# Altium footprint library SBComponentsFootprints.PcbLib: 38 footprints (part 1 of 3)
Each footprint in its own frame and in the unit in brackets; x right, y up, seen from the top. Pads: shape width x height; smd on the part's side, far side on the other; paste and mask are expansions set on the pad; w line width, h text height; cw(c..) or ccw(c..) is an arc to the next point about the centre after c.
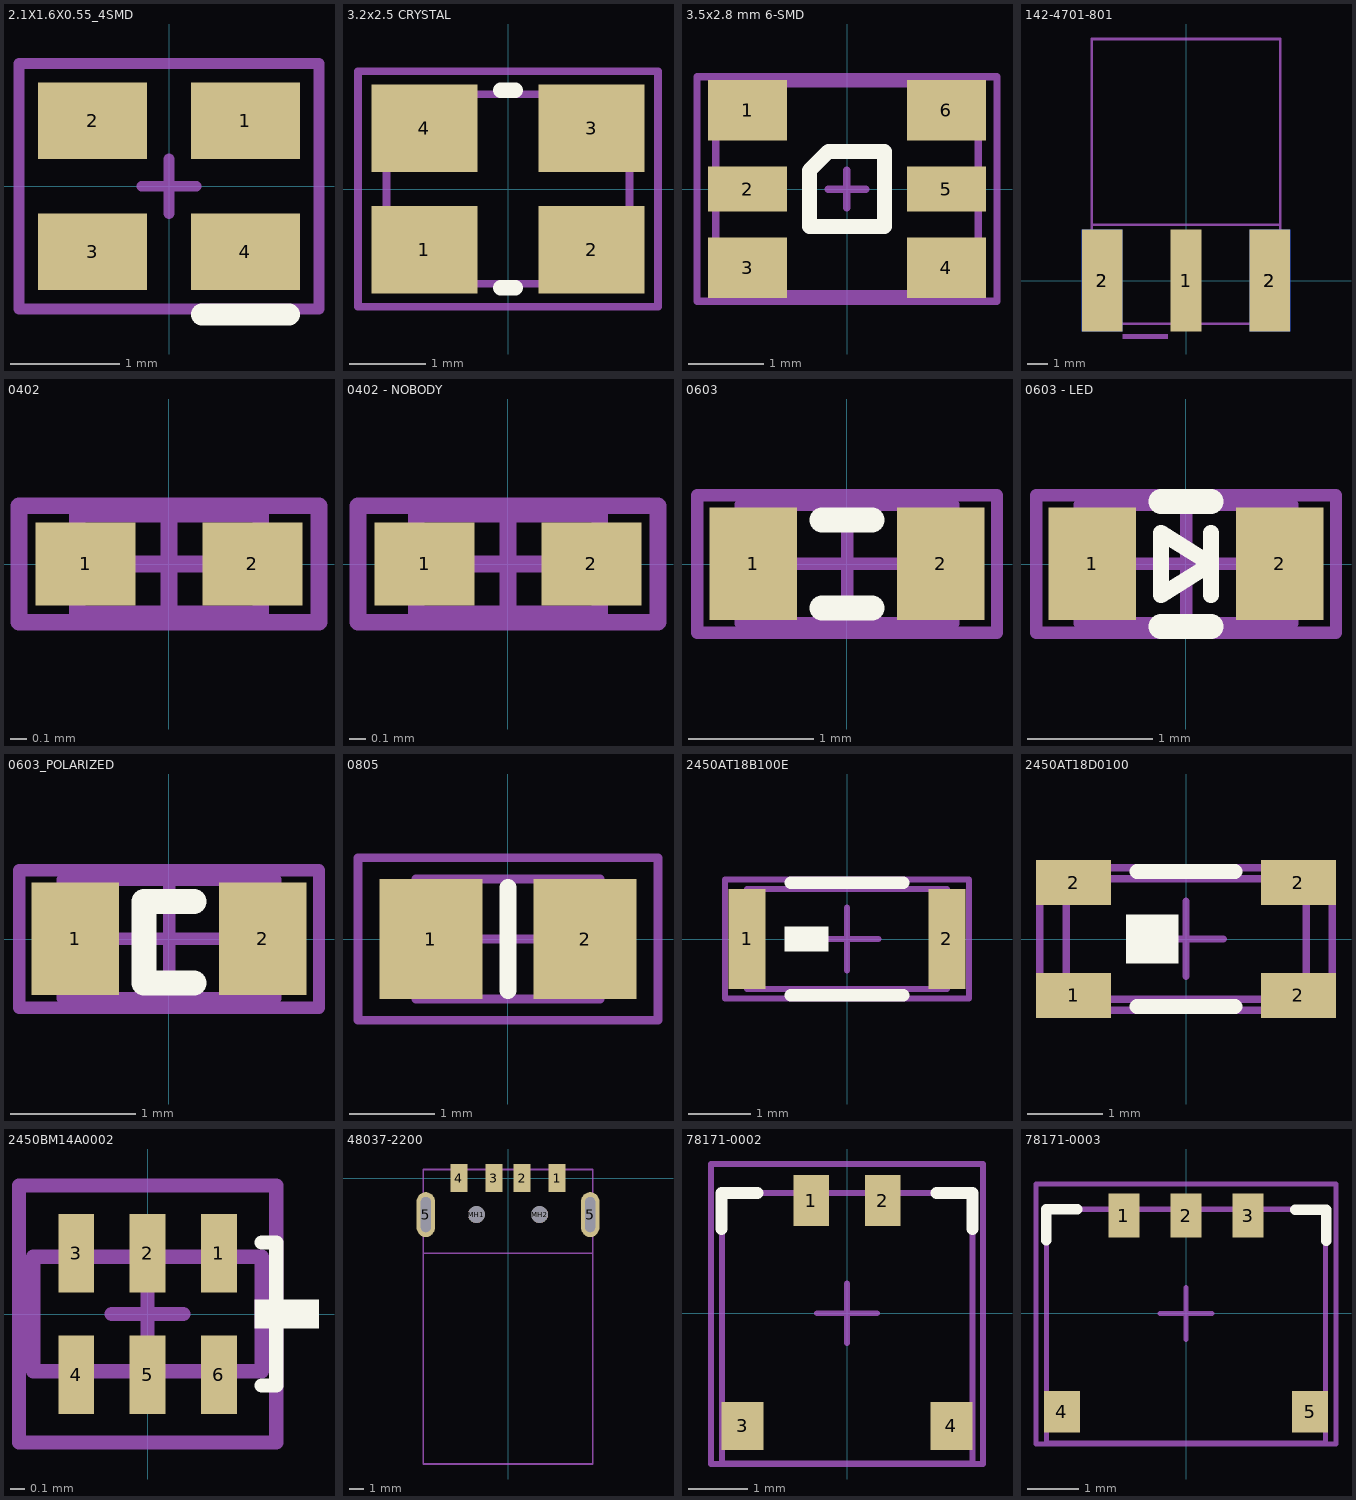
[diagram p0: the footprints below, top view; thin cyan lines are the x and y axes]

## 2.1X1.6X0.55_4SMD [mm]
height 0.55
pads (4):
  rect 1x0.7 smd: 1(0.7,0.6) 2(-0.7,0.6) 3(-0.7,-0.6) 4(0.7,-0.6)
Top Overlay:
  lines w0.2: 0.3,-1.175 1.1,-1.175
Mechanical 15:
  lines w0.1: -0.25,0 0.25,0 ; 0,-0.25 0,0.25 ; -1.375,-1.125 -1.375,1.125 1.375,1.125 1.375,-1.125 -1.375,-1.125
3D body: height 0.55, standoff 0, extent -1.05,-0.8 1.05,0.8

## 3.2x2.5 CRYSTAL [mm]
height 0.8
pads (4):
  rect 1.4x1.15 smd: 1(-1.1,-0.8) 2(1.1,-0.8) 3(1.1,0.8) 4(-1.1,0.8)
Top Overlay:
  lines w0.2: -0.1,-1.3 0.1,-1.3 ; -0.1,1.3 0.1,1.3
Mechanical 1:
  lines w0.1: -1.6,-1.25 -1.6,1.25 1.6,1.25 1.6,-1.25 -1.6,-1.25
Mechanical 15:
  lines w0.1: -1.975,-1.55 1.975,-1.55 1.975,1.55 -1.975,1.55 -1.975,-1.55
3D body: height 0.8, standoff 0, extent -1.6,-1.25 1.6,1.25

## 3.5x2.8 mm 6-SMD [mm] "3.5 x 2.8 mm 6-SMD Flat Leads"
height 0.6
pads (6):
  rect 1.05x0.8 smd: 1(-1.325,1.05) 3(-1.325,-1.05) 4(1.325,-1.05) 6(1.325,1.05)
  rect 1.05x0.6 smd: 2(-1.325,0) 5(1.325,0)
Top Overlay:
  lines w0.2: -0.5,-0.5 0.5,-0.5 0.5,0.5 -0.25,0.5 -0.5,0.25 -0.5,-0.5
Mechanical 13:
  lines w0.1: -1.75,-1.4 -1.75,1.4 1.75,1.4 1.75,-1.4 -1.75,-1.4
Mechanical 15:
  lines w0.1: -0.25,0 0.25,0 ; 0,-0.25 0,0.25 ; -2,-1.5 2,-1.5 2,1.5 -2,1.5 -2,-1.5
3D body: height 0.6, standoff 0, extent -1.75,-1.4 1.75,1.4

## 142-4701-801 [mil]
pads (5):
  rect 60x200 smd: 1(0,0)
  rect 80x200 smd: 2(-165,0) 2(165,0)
  rect 80x200 smd far side: 2(-165,0) 2(165,0)
Mechanical 1:
  rectangle: -125,-115 -35,-105
  lines w5: -185,110 185,110 ; -185,-85 185,-85 185,475 -185,475 -185,-85
  text "PCB edge" at -170,130 h23.62
3D body: height 171.35, standoff -140.47, extent -187.4,-85.11 187.41,476.7

## 0402 [mm] "Chip Body 1.0 x 0.5 mm (LxW typ)"
height 0.55
pads (2):
  rect 0.6x0.5 smd: 1(-0.5,0) 2(0.5,0)
Mechanical 13:
  lines w0.1: -0.55,-0.3 -0.55,0.3 0.55,0.3 0.55,-0.3 -0.55,-0.3
Mechanical 15:
  lines w0.1: -0.3,0 0.3,0 ; 0,-0.3 0,0.3 ; -0.9,-0.35 -0.9,0.35 0.9,0.35 0.9,-0.35 -0.9,-0.35
3D body: height 0.55, standoff 0, extent -0.55,-0.3 0.55,0.3

## 0402 - NOBODY [mm] "Chip Body 1.0 x 0.5 mm (LxW typ)"
pads (2):
  rect 0.6x0.5 smd: 1(-0.5,0) 2(0.5,0)
Mechanical 13:
  lines w0.1: -0.55,-0.3 0.55,-0.3 0.55,0.3 -0.55,0.3 -0.55,-0.3
Mechanical 15:
  lines w0.1: -0.3,0 0.3,0 ; 0,-0.3 0,0.3 ; -0.9,-0.35 0.9,-0.35 0.9,0.35 -0.9,0.35 -0.9,-0.35
3D body: height 0, standoff 0, extent -0.55,-0.3 0.55,0.3

## 0603 [mm] "Chip Body 1.6 x 0.8 mm (LxW typ)"
height 0.87
pads (2):
  rect 0.7x0.9 smd: 1(-0.75,0) 2(0.75,0)
Top Overlay:
  lines w0.2: -0.2,-0.35 0.2,-0.35 ; -0.2,0.35 0.2,0.35
Mechanical 13:
  lines w0.1: -0.85,-0.475 -0.85,0.475 0.85,0.475 0.85,-0.475 -0.85,-0.475
Mechanical 15:
  lines w0.1: -0.475,0 0.475,0 ; 0,-0.475 0,0.475 ; -1.2,-0.55 -1.2,0.55 1.2,0.55 1.2,-0.55 -1.2,-0.55
3D body: height 0.9, standoff 0, extent -0.85,-0.475 0.85,0.475

## 0603 - LED [mm] "Chip Body 1.6 x 0.8 mm (LxW typ)"
height 0.87
pads (2):
  rect 0.7x0.9 smd: 1(-0.75,0) 2(0.75,0)
Top Overlay:
  lines w0.125: 0.2,-0.25 0.2,0.25 ; -0.2,-0.25 -0.2,0.25 0.2,0 -0.2,-0.25
  lines w0.2: -0.2,-0.5 0.2,-0.5 ; -0.2,0.5 0.2,0.5
Mechanical 13:
  lines w0.1: -0.85,-0.475 0.85,-0.475 0.85,0.475 -0.85,0.475 -0.85,-0.475
Mechanical 15:
  lines w0.1: -0.475,0 0.475,0 ; 0,-0.475 0,0.475 ; -1.2,-0.55 1.2,-0.55 1.2,0.55 -1.2,0.55 -1.2,-0.55
3D body: height 0.9, standoff 0, extent -0.85,-0.475 0.85,0.475

## 0603_POLARIZED [mm] "Chip Body 1.6 x 0.8 mm (LxW typ)"
height 0.87
pads (2):
  rect 0.7x0.9 smd: 1(-0.75,0) 2(0.75,0)
Top Overlay:
  lines w0.2: 0.2,-0.35 -0.2,-0.35 -0.2,0.3 0.2,0.3
Mechanical 13:
  lines w0.1: -0.85,-0.475 -0.85,0.475 0.85,0.475 0.85,-0.475 -0.85,-0.475
Mechanical 15:
  lines w0.1: -0.475,0 0.475,0 ; 0,-0.475 0,0.475 ; -1.2,-0.55 -1.2,0.55 1.2,0.55 1.2,-0.55 -1.2,-0.55
3D body: height 0.9, standoff 0, extent -0.85,-0.475 0.85,0.475

## 0805 [mm] "Chip Body 2.0 x 1.2 mm (LxW typ)"
height 1.3
pads (2):
  rect 1.2x1.4 smd: 1(-0.9,0) 2(0.9,0)
Top Overlay:
  lines w0.2: 0,-0.6 0,0.6
Mechanical 13:
  lines w0.1: -1.075,-0.7 1.075,-0.7 1.075,0.7 -1.075,0.7 -1.075,-0.7
Mechanical 15:
  lines w0.1: -0.5,0 0.5,0 ; 0,-0.5 0,0.5 ; -1.75,-0.95 1.75,-0.95 1.75,0.95 -1.75,0.95 -1.75,-0.95
3D body: height 1.3, standoff 0, extent -1.075,-0.7 1.075,0.7

## 2450AT18B100E [mm] "ANTENNA CHIP 2.4GHZ"
height 1.3
pads (2):
  rect 0.6x1.6 smd: 1(-1.6,0) 2(1.6,0)
Top Overlay:
  rectangle: -1,-0.2 -0.3,0.2
  lines w0.2: -0.9,-0.9 0.9,-0.9 ; -0.9,0.9 0.9,0.9
Mechanical 1:
  lines w0.1: -1.6,-0.8 1.6,-0.8 1.6,0.8 -1.6,0.8 -1.6,-0.8
Mechanical 15:
  lines w0.1: -0.5,0 0.5,0 ; 0,-0.5 0,0.5 ; -1.95,-0.95 1.95,-0.95 1.95,0.95 -1.95,0.95 -1.95,-0.95
3D body: height 1.3, standoff 0, extent -1.6,-0.8 1.6,0.8

## 2450AT18D0100 [mm] "ANTENNA CHIP 2.4GHZ"
height 1.3
pads (4):
  rect 1x0.6 smd: 1(-1.5,-0.75) 2(-1.5,0.75) 2(1.5,-0.75) 2(1.5,0.75)
Top Overlay:
  rectangle: -0.8,-0.325 -0.1,0.325
  lines w0.2: -0.65,-0.9 0.65,-0.9 ; -0.65,0.9 0.65,0.9
Mechanical 1:
  lines w0.1: -1.6,-0.8 1.6,-0.8 1.6,0.8 -1.6,0.8 -1.6,-0.8
Mechanical 15:
  lines w0.1: -0.5,0 0.5,0 ; 0,-0.5 0,0.5 ; -1.95,-0.95 1.95,-0.95 1.95,0.95 -1.95,0.95 -1.95,-0.95
3D body: height 1.3, standoff 0, extent -1.6,-0.8 1.6,0.8

## 2450BM14A0002 [mm] "2.45 GHz Impedance Matched Balun-Filter: Optimized for Nordic's Chipset nRF24L01"
height 0.6
pads (6):
  rect 0.25x0.55 smd: 1(0.5,0.425) 2(0,0.425) 3(-0.5,0.425) 4(-0.5,-0.425) 5(0,-0.425) 6(0.5,-0.425)
Top Overlay:
  rectangle: 0.75,-0.1 1.2,0.1
  lines w0.1: 0.8,-0.5 0.9,-0.5 0.9,0.5 0.8,0.5
Mechanical 13:
  lines w0.1: -0.8,-0.4 0.8,-0.4 0.8,0.4 -0.8,0.4 -0.8,-0.4
Mechanical 15:
  lines w0.1: -0.25,0 0.25,0 ; 0,-0.25 0,0.25 ; -0.9,-0.9 0.9,-0.9 0.9,0.9 -0.9,0.9 -0.9,-0.9
3D body: height 0.6, standoff 0, extent -0.8,-0.4 0.8,0.4

## 48037-2200 [mm] "Molex 48037-2200 USB Type A Receptacle"
height 2.1
pads (8):
  rect 1.2x2 smd: 1(3.5,0) 2(1,0) 3(-1,0) 4(-3.5,0)
  oval 1.3x3.2 hole 0.7 slot 2.5 at 90 deg: 5(-5.85,-2.6) 5(5.85,-2.6)
  round 1.2 hole 1.2 paste+0 mask+0: MH1(-2.25,-2.6) MH2(2.25,-2.6)
Mechanical 1:
  lines w0.125: -6.025,-5.35 6.025,-5.35 ; -6.025,-20.35 -6.025,0.6 6.025,0.6 6.025,-20.35 -6.025,-20.35 ; -6.025,-20.35 -6.025,-20.35
  text "PCB edge" at -5.825,-6.15 h0.6
3D body: height 2.1, standoff -2.4, extent -6.025,-20.35 6.025,0.6

## 78171-0002 [mm]
height 1.55
pads (4):
  rect 0.6x0.85 smd: 1(-0.6,1.888) 2(0.6,1.888)
  rect 0.7x0.8 smd: 3(-1.75,-1.887) 4(1.75,-1.887)
Top Overlay:
  lines w0.2: -2.1,1.413 -2.1,2.013 -1.5,2.013 ; 1.5,2.013 2.1,2.013 2.1,1.413
Mechanical 1:
  lines w0.1: -2.095,-2.512 -2.095,2.013 2.1,2.013 2.1,-2.512 -2.095,-2.512
Mechanical 15:
  lines w0.1: -0.5,0 0.5,0 ; 0,-0.5 0,0.5 ; -2.275,-2.525 2.275,-2.525 2.275,2.5 -2.275,2.5 -2.275,-2.525
3D body: height 1.45, standoff 0, extent -2.1,-2.512 2.1,2.018

## 78171-0003 [mm]
height 1.55
pads (5):
  rect 0.6x0.85 smd: 1(-1.2,1.888) 2(0,1.888) 3(1.2,1.888)
  rect 0.7x0.8 smd: 4(-2.4,-1.9) 5(2.4,-1.9)
Top Overlay:
  lines w0.2: -2.7,1.413 -2.7,2.013 -2.1,2.013 ; 2.113,2 2.713,2 2.713,1.4
Mechanical 1:
  lines w0.1: -2.7,-2.512 -2.7,2.013 2.7,2.013 2.7,-2.512 -2.7,-2.512
Mechanical 15:
  lines w0.1: -0.5,0 0.5,0 ; 0,-0.5 0,0.5 ; -2.9,-2.525 2.9,-2.525 2.9,2.5 -2.9,2.5 -2.9,-2.525
3D body: height 1.46, standoff 0.01, extent -2.7,-2.5 2.7,2.03